# Altium schematic symbol library Schlib1.SchLib: 3 symbols
Pins are listed as number, name and electrical type; pins without a type are passive.

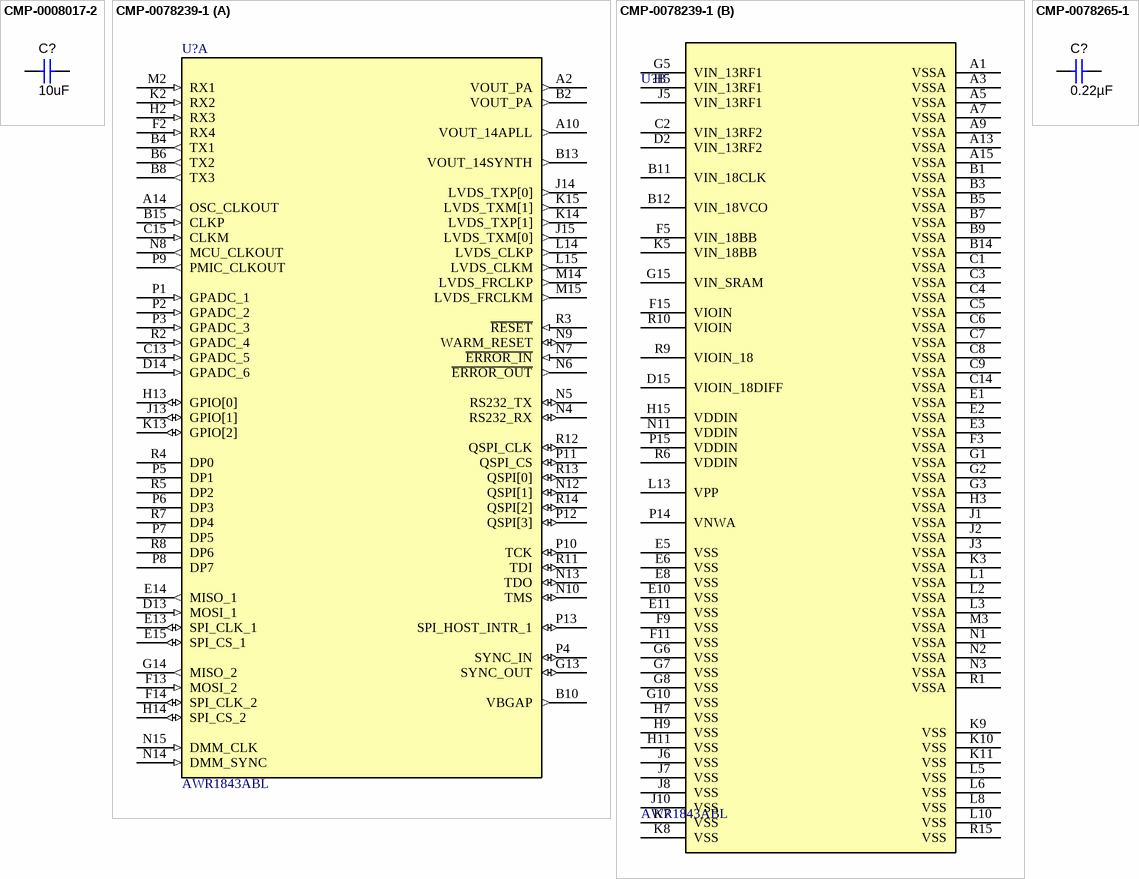
[diagram p0: symbols CMP-0008017-2 to CMP-0078265-1]

## CMP-0008017-2
designator C?, comment ValueDisplayed: 10uF  (hidden comment: GCM21BR71A106KE22L)
CAP, CERM, 10 uF, 10 V, +/- 10%, X7R, 0805; Manufacturer: MuRata; TaMin_C: -55°C; Polarized: N; SizeAreaWB_mm2: 6.75; Value1: Unknown; U/M: EA; Value: 10uF; TaMax_C: 125°C; SizeZ_mm: 1.45; SizeX_mm: 2; SizeY_mm: 1.25; Cap_Case: 0805; Value2: 10V; SizeArea_mm2: 2.5; CompType: Capacitor; Cap_F: 10µF; AEC Category: Q200; Supplier Part Number 2: 06AC6014; Publisher: Texas Instruments; Supplier 2: Newark; Supplier Part Number 3: 81-GCM21BR71A106KE2L; TempCo: X7R; Supplier 3: Mouser; Published: 2008-06-19; RoHS: Y; MountType: SMT; Supplier 1: Digi-Key; PackageReference: 0805; Tolerance_%: 10%; LatestRevisionDate: 2017-03-09; PartNumber: GCM21BR71A106KE22L; AEC Qualified: ?; VDC_V: 10V; ComponentLink1Description: Datasheet link; Supplier Part Number 1: 490-10674-1-ND; Technology: Ceramic; ComponentLink1URL: http://www.murata.com/products/catalog/pdf/c03e.pdf
footprint 0805_HV (0805 with 30mil clearance between pads)
footprint 0805M (0805 from SM-752 data)
footprint 0805 (0805 from SM-752 data)
footprint 0805L (0805 from SM-752 data)
footprint 0805_HV1 (Custom footprint based on analyzing multiple manufacturer recommendations)
pins: 1, 2

## CMP-0078239-1
designator U?, comment AWR1843ABL
AWR1843ABL, ABL0161B (FCBGA-161); Manufacturer: Texas Instruments; AEC Qualified: N; SizeArea_mm2: 108.16; CompType: IC; SizeAreaWB_mm2: 153.76; AEC Category: Q200; SizeY_mm: 10.4; SizeZ_mm: 1.17; ComponentLink2Description: Product Folder; PackageDescription: FCBGA-161; PackageReference: ABL0161B; ComponentLink1Description: Datasheet Link; MountType: SMT; ComponentLink1URL: https://sps16.itg.ti.com/sites/KMS/crossdivteams/altium/docs/AWR1843_ballout_05Sep17.xlsx; ComponentLink2URL: TBD; Alternate Manufacturer: Texas Instruments; SizeX_mm: 10.4; PartId: 1; PartNumber: AWR1843ABL
footprint ABL0161B (BGA, 161-Balls, Body 10.4x10.4mm, Pitch 0.65mm)
part A pins: A2 VOUT_PA (out), A10 VOUT_14APLL (out), A14 OSC_CLKOUT (out), B2 VOUT_PA (out), B4 TX1 (out), B6 TX2 (out), B8 TX3 (out), B10 VBGAP (out), B13 VOUT_14SYNTH (out), B15 CLKP (in), C13 GPADC_5 (in), C15 CLKM (in), D13 MOSI_1 (in), D14 GPADC_6 (in), E13 SPI_CLK_1 (io), E14 MISO_1 (out), E15 SPI_CS_1 (io), F2 RX4 (in), F13 MOSI_2 (in), F14 SPI_CLK_2 (io), G13 SYNC_OUT (io), G14 MISO_2 (out), H2 RX3 (in), H13 GPIO[0] (io), H14 SPI_CS_2 (io), J13 GPIO[1] (io), J14 LVDS_TXP[0] (out), J15 LVDS_TXM[0] (out), K2 RX2 (in), K13 GPIO[2] (io), K14 LVDS_TXP[1] (out), K15 LVDS_TXM[1] (out), L14 LVDS_CLKP (out), L15 LVDS_CLKM (out), M2 RX1 (in), M14 LVDS_FRCLKP (out), M15 LVDS_FRCLKM (out), N4 RS232_RX (io), N5 RS232_TX (io), N6 ~{ERROR_OUT} (out), N7 ~{ERROR_IN} (in), N8 MCU_CLKOUT (out), N9 WARM_RESET (io), N10 TMS (io), N12 QSPI[1] (io), N13 TDO (io), N14 DMM_SYNC (in), N15 DMM_CLK (in), P1 GPADC_1 (in), P2 GPADC_2 (in), P3 GPADC_3 (in), P4 SYNC_IN (io), P5 DP1, P6 DP3, P7 DP5, P8 DP7, P9 PMIC_CLKOUT (out), P10 TCK (io), P11 QSPI_CS (io), P12 QSPI[3] (io), P13 SPI_HOST_INTR_1 (io), R2 GPADC_4 (in), R3 ~{RESET} (in), R4 DP0, R5 DP2, R7 DP4, R8 DP6, R11 TDI (io), R12 QSPI_CLK (io), R13 QSPI[0] (io), R14 QSPI[2] (io)
part B pins: A1 VSSA (power), A3 VSSA (power), A5 VSSA (power), A7 VSSA (power), A9 VSSA (power), A13 VSSA (power), A15 VSSA (power), B1 VSSA (power), B3 VSSA (power), B5 VSSA (power), B7 VSSA (power), B9 VSSA (power), B11 VIN_18CLK (power), B12 VIN_18VCO (power), B14 VSSA (power), C1 VSSA (power), C2 VIN_13RF2 (power), C3 VSSA (power), C4 VSSA (power), C5 VSSA (power), C6 VSSA (power), C7 VSSA (power), C8 VSSA (power), C9 VSSA (power), C14 VSSA (power), D2 VIN_13RF2 (power), D15 VIOIN_18DIFF (power), E1 VSSA (power), E2 VSSA (power), E3 VSSA (power), E5 VSS (power), E6 VSS (power), E8 VSS (power), E10 VSS (power), E11 VSS (power), F3 VSSA (power), F5 VIN_18BB (power), F9 VSS (power), F11 VSS (power), F15 VIOIN (power), G1 VSSA (power), G2 VSSA (power), G3 VSSA (power), G5 VIN_13RF1 (power), G6 VSS (power), G7 VSS (power), G8 VSS (power), G10 VSS (power), G15 VIN_SRAM (power), H3 VSSA (power), H5 VIN_13RF1 (power), H7 VSS (power), H9 VSS (power), H11 VSS (power), H15 VDDIN (power), J1 VSSA (power), J2 VSSA (power), J3 VSSA (power), J5 VIN_13RF1 (power), J6 VSS (power), J7 VSS (power), J8 VSS (power), J10 VSS (power), K3 VSSA (power), K5 VIN_18BB (power), K7 VSS (power), K8 VSS (power), K9 VSS (power), K10 VSS (power), K11 VSS (power), L1 VSSA (power), L2 VSSA (power), L3 VSSA (power), L5 VSS (power), L6 VSS (power), L8 VSS (power), L10 VSS (power), L13 VPP (power), M3 VSSA (power), N1 VSSA (power), N2 VSSA (power), N3 VSSA (power), N11 VDDIN (power), P14 VNWA (power), P15 VDDIN (power), R1 VSSA (power), R6 VDDIN (power), R9 VIOIN_18 (power), R10 VIOIN (power), R15 VSS (power)

## CMP-0078265-1
designator C?, comment ValueDisplayed: 0.22µF  (hidden comment: GCM155R71C224KE02D)
CAP, CERM, 0.22 µF, 16 V,+/- 10%, X7R, AEC-Q200 Grade 1, 0402; Manufacturer: MuRata; TaMin_C: -55°C; Polarized: N; SizeAreaWB_mm2: 3; U/M: EA; Value: 0.22uF; TaMax_C: 125°C; SizeZ_mm: 0.6; SizeX_mm: 1; SizeY_mm: 0.5; Cap_Case: 0402; Value2: 16V; CompType: Capacitor; AEC Qualified: Y; Cap_F: 220nF; AEC Category: Q200; ComponentLink1URL: http://psearch.en.murata.com/capacitor/product/GCM155R71C224KE02%23.pdf; Supplier Part Number 2: 81-GCM155R71C224KE2D; Supplier 2: Mouser; TempCo: X7R; RoHS: Y; MountType: SMT; Supplier 1: Digi-Key; PackageReference: 0402; Tolerance_%: 10%; SizeArea_mm2: 0.5; PartNumber: GCM155R71C224KE02D; VDC_V: 16V; ComponentLink1Description: Datasheet link; AEC Grade: 1; Supplier Part Number 1: 490-10671-1-ND; Technology: Ceramic
footprint 0402 (0402 from SM-752 data)
footprint 0402M (0402 from SM-752 data)
footprint 0402L (0402 from SM-752 data)
footprint 0402S (Based on C0402S footprint from PADS legacy)
pins: 1, 2